# Altium footprint library PcbLib1.PcbLib: 4 footprints
Each footprint in its own frame and in the unit in brackets; x right, y up, seen from the top. Pads: shape width x height; smd on the part's side, far side on the other; paste and mask are expansions set on the pad; w line width, h text height; cw(c..) or ccw(c..) is an arc to the next point about the centre after c.
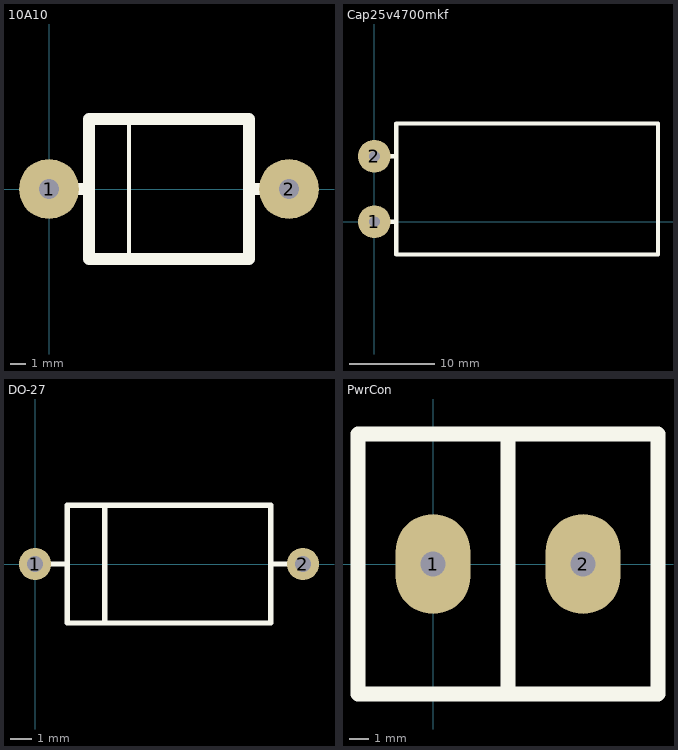
[diagram p0: the footprints below, top view; thin cyan lines are the x and y axes]

## 10A10 [mil]
pads (2):
  round 150 hole 50: 1(0,0) 2(600,0)
Top Overlay:
  lines w10: 200,-175 200,175
  lines w30: 0,0 100,0 ; 500,0 600,0 ; 100,0 100,-175 500,-175 500,175 100,175 100,0

## Cap25v4700mkf [mil]
pads (2):
  round 150 hole 50: 1(0,0) 2(0,300)
Top Overlay:
  lines w20: 0,0 100,0 ; 0,300 100,300 ; 100,-150 100,150 100,450 1300,450 1300,-150 100,-150

## DO-27 [mil]
pads (2):
  round 60 hole 30: 1(0,0) 2(500,0)
Top Overlay:
  lines w10: 0,0 60,0 ; 130,-110 130,110 ; 440,0 500,0 ; 60,-110 440,-110 440,110 60,110 60,-110

## PwrCon [mil]
pads (2):
  oval 150x200 hole 50: 1(0,0) 2(300,0)
Top Overlay:
  lines w30: 150,-260 450,-260 450,260 150,260 ; 150,-260 -150,-260 -150,260 150,260 ; 150,-260 150,260